# Altium footprint library ROV_Voltage_Switch.PcbLib: 32 footprints (part 2 of 2)
Each footprint in its own frame and in the unit in brackets; x right, y up, seen from the top. Pads: shape width x height; smd on the part's side, far side on the other; paste and mask are expansions set on the pad; w line width, h text height; cw(c..) or ccw(c..) is an arc to the next point about the centre after c.
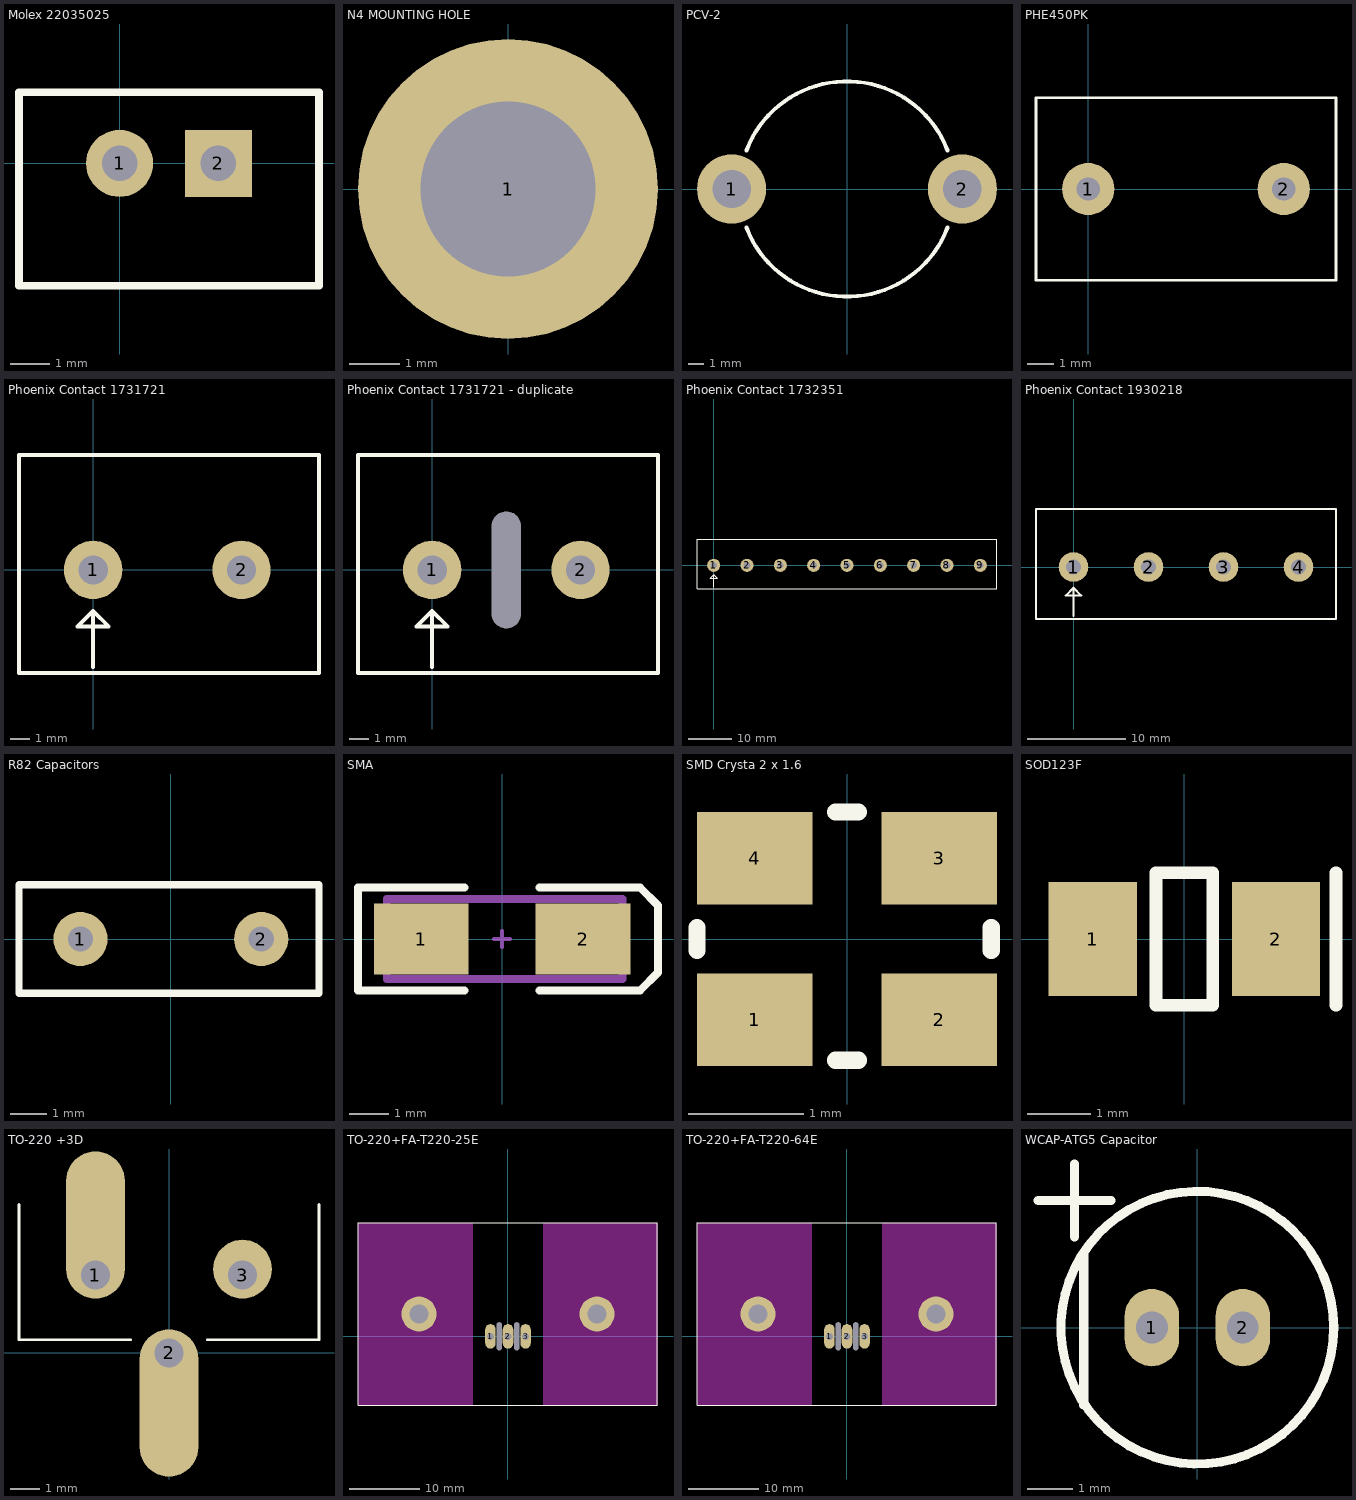
[diagram p1: the footprints below, top view; thin cyan lines are the x and y axes]

## Molex 22035025 [mm]
pads (2):
  round 1.7 hole 0.9: 1(0,0)
  rect 1.7x1.7 hole 0.9: 2(2.5,0)
Top Overlay:
  lines w0.2: -2.55,-3.1 5.05,-3.1 5.05,1.8 -2.55,1.8 -2.55,-3.1
3D body "022035025.stp": height 5.9, standoff -3.5, extent -2.45,-3.1 4.95,1.8

## N4 MOUNTING HOLE [mm]
pads (1):
  round 6 hole 3.5: 1(0,0)
3D body: height -0.19, standoff -0.2, extent -0.01,-0.01 0.01,0.01

## PCV-2 [mm]
pads (2):
  round 4.5 hole 2.5: 1(-7.5,0) 2(7.5,0)
Top Overlay:
  lines w0.254: -6.533,-2.513 ccw(c0,0) 6.533,-2.513 ; -6.533,2.513 cw(c0,0) 6.533,2.513
3D body: height 38, standoff 0, extent -7,-7 7,7

## PHE450PK [mm]
pads (2):
  round 2 hole 0.9: 1(0,0) 2(7.5,0)
Top Overlay:
  lines w0.1: -2,-3.5 -2,3.5 9.5,3.5 9.5,-3.5 -2,-3.5
3D body: height 12, standoff 0, extent -1.5,-3 9,3

## Phoenix Contact 1731721 [mm]
pads (2):
  round 3 hole 1.5: 1(0,0) 2(7.62,0)
Top Overlay:
  lines w0.2: 0,-5 0,-2.1 ; 0,-2.1 -0.8,-2.9 0.8,-2.9 0,-2.1 ; -3.81,5.91 11.6,5.91 11.6,-5.3 -3.8,-5.3 -3.8,5.91 -3.81,5.91
3D body "pxc_1731721_05_GMKDS-3-2-7-62_3D.stp": height 18.31, standoff -4.99, extent -4.405,-5.5 11.405,5.7

## Phoenix Contact 1731721 - duplicate [mm]
pads (3):
  round 3 hole 1.5: 1(0,0) 2(7.62,0)
  round 0 hole 1.5 slot 6 at 90 deg unplated: ""(3.81,0)
Top Overlay:
  lines w0.2: 0,-5 0,-2.1 ; 0,-2.1 -0.8,-2.9 0.8,-2.9 0,-2.1 ; -3.81,5.91 11.6,5.91 11.6,-5.3 -3.8,-5.3 -3.8,5.91 -3.81,5.91
3D body "pxc_1731721_05_GMKDS-3-2-7-62_3D.stp": height 18.31, standoff -4.99, extent -4.405,-5.5 11.405,5.7

## Phoenix Contact 1732351 [mm]
pads (9):
  round 3 hole 1.5: 1(0,0) 2(7.62,0) 3(15.24,0) 4(22.86,0) 5(30.48,0) 6(38.1,0) 7(45.72,0) 8(53.34,0) 9(60.96,0)
Top Overlay:
  lines w0.2: 0,-5 0,-2.1 ; 0,-2.1 -0.8,-2.9 0.8,-2.9 0,-2.1 ; -3.81,5.91 64.77,5.91 64.77,-5.3 -3.8,-5.3 -3.8,5.91 -3.81,5.91
3D body "pxc_1731721_05_GMKDS-3-2-7-62_3D.stp": height 18.31, standoff -4.99, extent 41.315,-5.5 57.125,5.7
3D body "pxc_1731721_05_GMKDS-3-2-7-62_3D.stp": height 18.31, standoff -4.99, extent 26.075,-5.5 41.885,5.7
3D body "pxc_1731721_05_GMKDS-3-2-7-62_3D.stp": height 18.31, standoff -4.99, extent 10.835,-5.5 26.645,5.7
3D body "pxc_1731721_05_GMKDS-3-2-7-62_3D.stp": height 18.31, standoff -4.99, extent -4.405,-5.5 11.405,5.7

## Phoenix Contact 1930218 [mm]
pads (4):
  round 3 hole 1.5: 1(0,0) 2(7.62,0) 3(15.24,0) 4(22.86,0)
Top Overlay:
  lines w0.2: 0,-5 0,-2.1 ; 0,-2.1 -0.8,-2.9 0.8,-2.9 0,-2.1 ; -3.81,5.91 26.67,5.91 26.67,-5.3 -3.8,-5.3 -3.8,5.91 -3.81,5.91
3D body "pxc_1731721_05_GMKDS-3-2-7-62_3D.stp": height 18.31, standoff -4.99, extent 10.835,-5.5 26.645,5.7
3D body "pxc_1731721_05_GMKDS-3-2-7-62_3D.stp": height 18.31, standoff -4.99, extent -4.405,-5.5 11.405,5.7

## R82 Capacitors [mm]
pads (2):
  round 1.5 hole 0.7: 1(-2.5,0) 2(2.5,0)
Top Overlay:
  lines w0.2: -4.2,-1.5 4.1,-1.5 4.1,1.5 -4.2,1.5 -4.2,-1.5
3D body: height 1.27, standoff 0, extent -3.6,-1.25 3.6,1.25

## SMA [mm] "DO-214-AC/SMA; 2 C-Bend Leads; Body 5 x 2.7 mm, inc. leads (LxW)"
height 2.44
pads (2):
  rect 2.4x1.8 smd: 1(-2.05,0) 2(2.05,0)
Top Overlay:
  lines w0.2: -0.95,-1.3 -3.65,-1.3 -3.65,1.3 -0.95,1.3 ; 0.95,-1.3 3.5,-1.3 3.95,-0.85 3.95,0.85 3.5,1.3 0.95,1.3
Mechanical 15:
  lines w0.1: -0.2,0 0.2,0 ; 0,-0.2 0,0.2
  lines w0.2: -2.921,-1.016 -2.921,1.016 3.048,1.016 3.048,-1.016 -2.921,-1.016
3D body: height 3, standoff 0, extent -2.921,-1.016 3.048,1.016

## SMD Crysta 2 x 1.6 [mm]
pads (4):
  rect 1x0.8 smd: 1(-0.8,-0.7) 2(0.8,-0.7) 3(0.8,0.7) 4(-0.8,0.7)
Top Overlay:
  lines w0.15: -1.3,-0.1 -1.3,0.1 ; -0.1,-1.05 0.1,-1.05 ; -0.1,1.1 0.1,1.1 ; 1.25,-0.1 1.25,0.1
3D body: height 0.7, standoff 0, extent -1,-0.8 1,0.8

## SOD123F [mm] "Diode Case"
height 1.1
pads (2):
  rect 1.4x1.8 smd: 1(-1.45,0) 2(1.45,0)
Top Overlay:
  lines w0.2: 2.4,-1.05 2.4,1.05 ; -0.45,-1.05 -0.45,1.05 0.45,1.05 0.45,-1.05 -0.45,-1.05
3D body "User Library-SOD123F.STEP": height 1.2, standoff -0.01, extent -1.9,-0.85 1.85,0.85

## TO-220 +3D [mm]
pads (3):
  oval 2x5 hole 1 copper offset 0,1.7: 1(-2.5,2.65)
  oval 2x5 hole 1 copper offset 0,-1.7: 2(0,0)
  round 2 hole 1 copper offset 0,0.2: 3(2.5,2.65)
Top Overlay:
  lines w0.1: -5.1,5.05 -5.1,0.45 -1.3,0.45 ; 1.3,0.45 5.1,0.45 5.1,5.05
3D body "User Library-TO-220-1.STEP": height 20.5, standoff -8.28, extent -4.955,0.55 4.955,5.05

## TO-220+FA-T220-25E [mm]
pads (7):
  oval 1.5x3.5 hole 1: 1(-2.5,0) 2(0,0) 3(2.5,0)
  round 5 hole 2.7: ""(-12.7,3.2) ""(12.7,3.2)
  round 0 hole 0.7 slot 4 at 90 deg unplated: ""(-1.25,0) ""(1.25,0)
Top Layer keep-out:
  rectangle: -21.4,-9.8 -5,16.2
  region: 21.4,16.2 5,16.2 5,-9.8 21.4,-9.8
Top Overlay:
  lines w0.1: -21.4,-9.8 21.3,-9.8 21.3,16.2 -21.4,16.2 -21.4,-9.8
3D body "User Library-TO-220-1.STEP": height 20.5, standoff -8.28, extent -4.955,-2.1 4.955,2.4
3D body "FA-T220-25E.stp": height 3.51, standoff -25.43, extent -20.805,-9.246 20.8,15.646

## TO-220+FA-T220-64E [mm]
pads (7):
  oval 1.5x3.5 hole 1: 1(-2.5,0) 2(0,0) 3(2.5,0)
  round 5 hole 2.7: ""(-12.7,3.2) ""(12.7,3.2)
  round 0 hole 0.7 slot 4 at 90 deg unplated: ""(-1.25,0) ""(1.25,0)
Top Layer keep-out:
  rectangle: -21.4,-9.8 -5,16.2
  region: 21.4,16.2 5,16.2 5,-9.8 21.4,-9.8
Top Overlay:
  lines w0.1: -21.4,-9.8 21.3,-9.8 21.3,16.2 -21.4,16.2 -21.4,-9.8
3D body "User Library-OHMITE_FA-T220-64E.STEP": height 63.51, standoff -3.79, extent -20.803,-9.366 20.797,15.766
3D body "User Library-TO-220-1.STEP": height 20.5, standoff -8.28, extent -4.955,-2.1 4.955,2.4

## WCAP-ATG5 Capacitor [mm]
pads (2):
  oval 1.2x1.7 hole 0.7: 1(-1,0) 2(1,0)
Top Overlay:
  circle w0.2: c0,0 r3
  lines w0.2: -3.5,2.8 -1.9,2.8 ; -2.7,2 -2.7,3.6 ; -2.5,-1.7 -2.5,1.6
3D body: height 10, standoff 0, extent -2.5,-2.497 2.5,2.497